# Altium schematic symbol library Digital_isolators.SchLib: 2 symbols
Pins are listed as number, name and electrical type; pins without a type are passive.

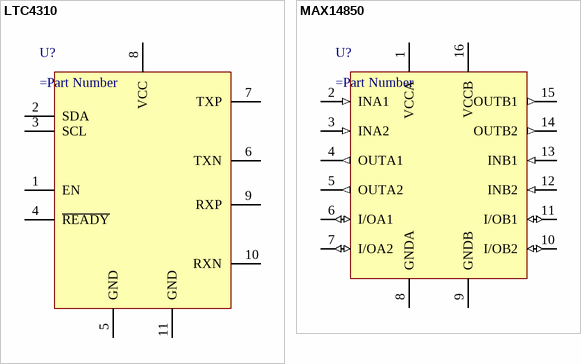
[diagram p0: symbols LTC4310 to MAX14850]

## LTC4310
designator U?
pins: 1 EN, 2 SDA, 3 SCL, 4 ~{READY}, 5 GND, 6 TXN, 7 TXP, 8 VCC, 9 RXP, 10 RXN, 11 GND

## MAX14850
designator U?
pins: 1 VCCA (power), 2 INA1 (in), 3 INA2 (in), 4 OUTA1 (out), 5 OUTA2 (out), 6 I/OA1 (io), 7 I/OA2 (io), 8 GNDA (power), 9 GNDB (power), 10 I/OB2 (io), 11 I/OB1 (io), 12 INB2 (in), 13 INB1 (in), 14 OUTB2 (out), 15 OUTB1 (out), 16 VCCB (power)